# EAGLE library part TLW-125-05-G-S (library SAMTEC-Txx_By_element14_Batch_1)
LOW PROFILE HEADER
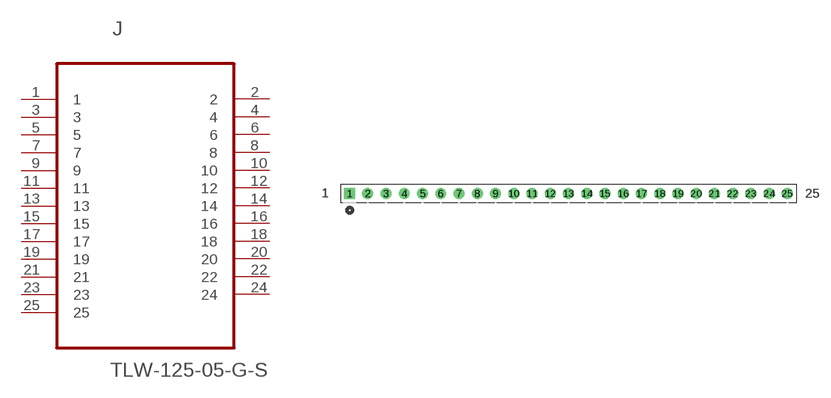
[diagram p290: symbol with the pads of SAMTEC_TLW-125-05-G-S; footprint SAMTEC_TLW-125-05-G-S]

Designator prefix J

## TLW-125-05-G-S (MPN: TLW-125-05-G-S; OC_FARNELL: -; OC_NEWARK: 12P0549; PACKAGE: LOW PROFILE HEADER, SINGLE ROW, 25 way; SUPPLIER: SAMTEC)  [SAMTEC_TLW-125-05-G-S]
1  1  pas
2  2  pas
3  3  pas
4  4  pas
5  5  pas
6  6  pas
7  7  pas
8  8  pas
9  9  pas
10  10  pas
11  11  pas
12  12  pas
13  13  pas
14  14  pas
15  15  pas
16  16  pas
17  17  pas
18  18  pas
19  19  pas
20  20  pas
21  21  pas
22  22  pas
23  23  pas
24  24  pas
25  25  pas

## Footprint SAMTEC_TLW-125-05-G-S (pad centres in mm)
drill 1.016 square: 1 -60.96,0
drill 1.016: 2 -58.42,0; 3 -55.88,0; 4 -53.34,0; 5 -50.8,0; 6 -48.26,0; 7 -45.72,0; 8 -43.18,0; 9 -40.64,0; 10 -38.1,0; 11 -35.56,0; 12 -33.02,0; 13 -30.48,0; 14 -27.94,0; 15 -25.4,0; 16 -22.86,0; 17 -20.32,0; 18 -17.78,0; 19 -15.24,0; 20 -12.7,0; 21 -10.16,0; 22 -7.62,0; 23 -5.08,0; 24 -2.54,0; 25 0,0